# EAGLE library part LTS06 (library ctrl)
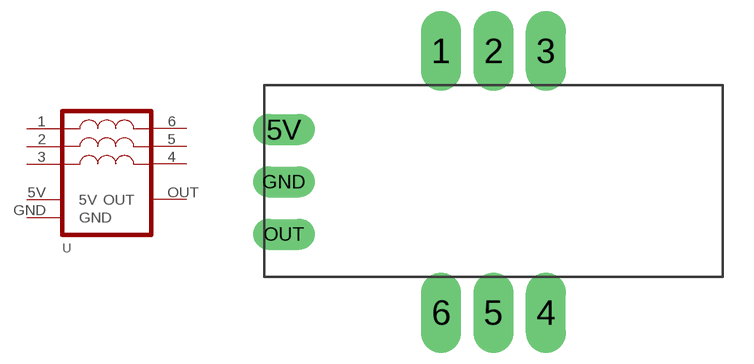
[diagram p1: symbol with the pads of LTS; footprint LTS]

Designator prefix U

## LTS06  [LTS]
1  1
2  2
3  3
4  4
5  5
5V  5V
6  6
GND  GND
OUT  OUT

## Footprint LTS (pad centres in mm)
drill 1.3 long: 1 -2.54,6.35; 2 0,6.35; 3 2.54,6.35; 4 2.54,-6.35; 5 0,-6.35; 6 -2.54,-6.35
drill 1 long: 5V -10.16,2.54; GND -10.16,0; OUT -10.16,-2.54